# Altium footprint library con-lumberg.PCBLIB: 62 footprints (part 1 of 4)
Each footprint in its own frame and in the unit in brackets; x right, y up, seen from the top. Pads: shape width x height; smd on the part's side, far side on the other; paste and mask are expansions set on the pad; w line width, h text height; cw(c..) or ccw(c..) is an arc to the next point about the centre after c.
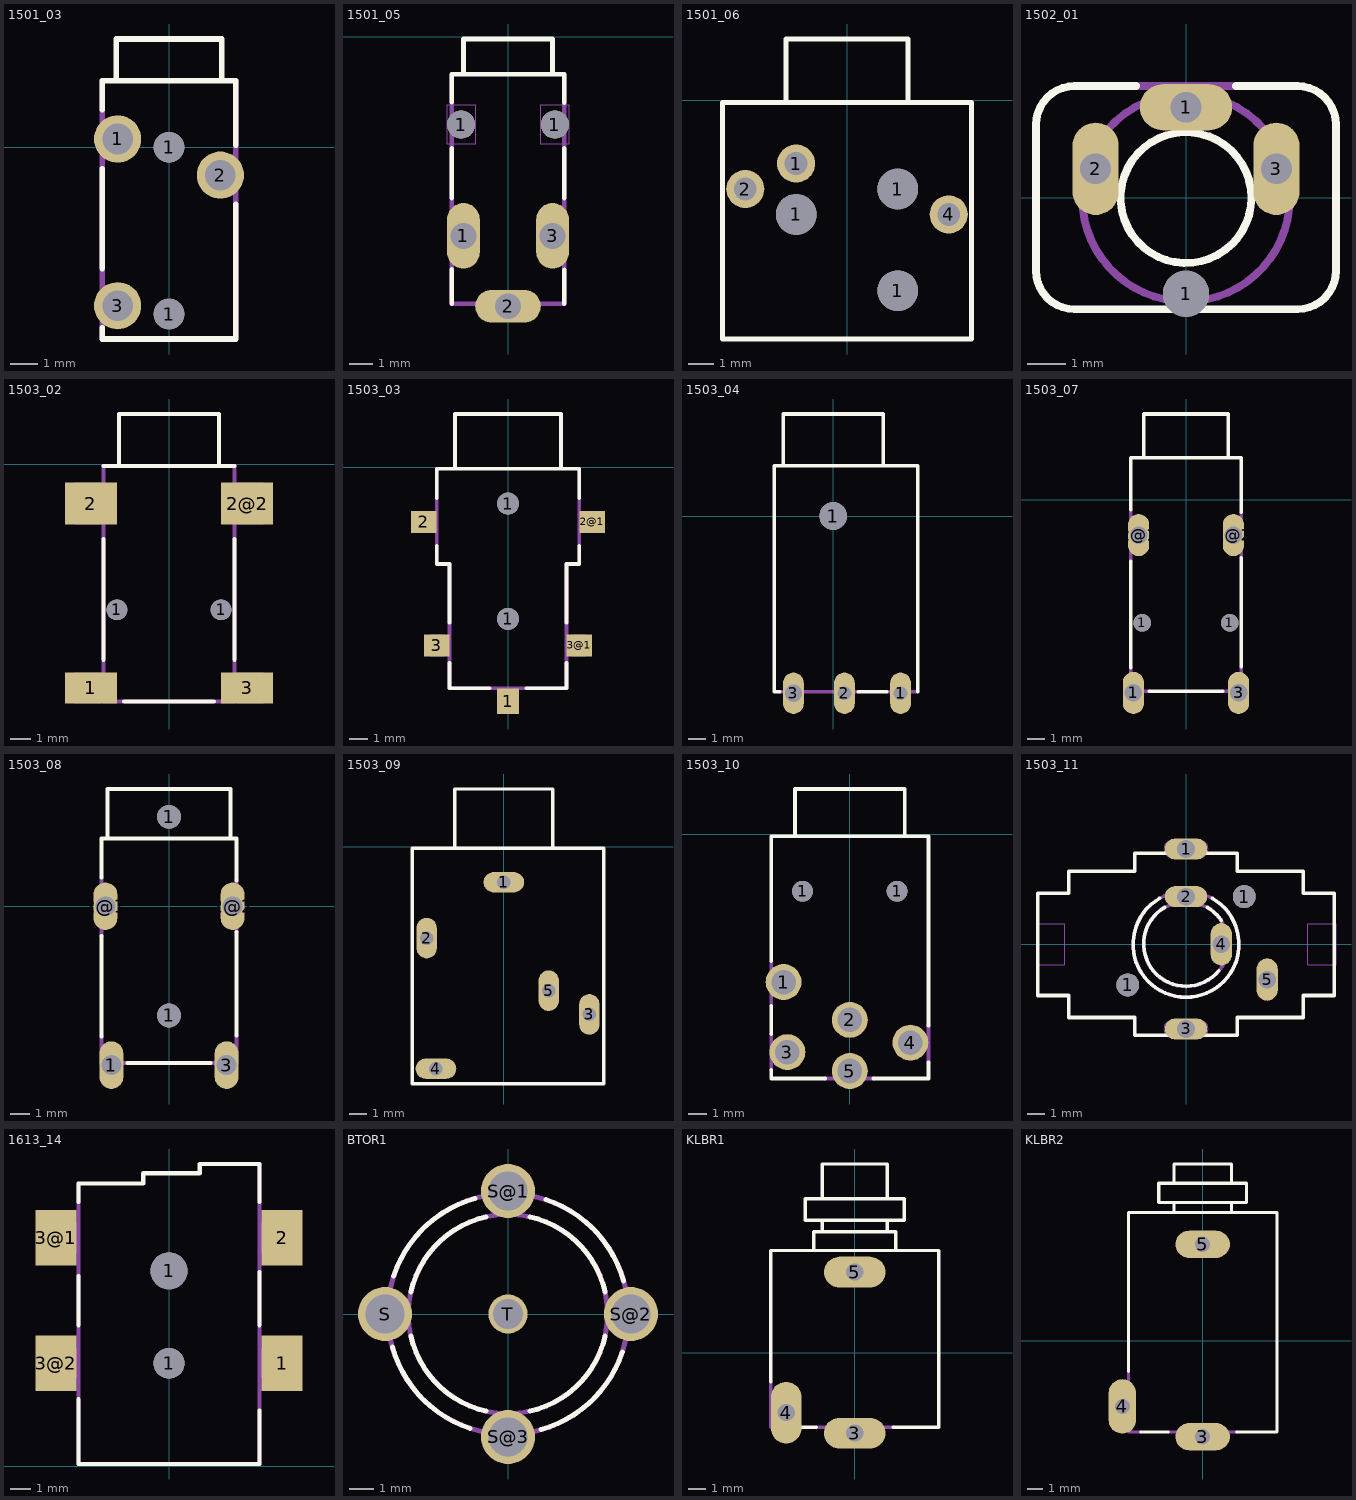
[diagram p0: the footprints below, top view; thin cyan lines are the x and y axes]

## 1501_03 [mm]
pads (5):
  round 1.7 hole 1.1: 1(-1.85,0.3) 2(1.85,-1) 3(-1.85,-5.7)
  round 1.1 hole 1.1: 1(0,-6) 1(0,0)
Top Overlay:
  lines w0.203: -2.4,-6.49 -2.4,-6.9 2.4,-6.9 2.4,-2.045 ; -2.4,-4.36 -2.4,-0.775 ; -2.4,1.355 -2.4,2.4 2.4,2.4 2.4,0.085 ; -1.9,2.5 -1.9,3.9 1.9,3.9 1.9,2.5
Mechanical 16:
  lines w0.203: -2.4,-6.9 -2.4,2.4 ; 2.4,-6.9 2.4,2.4

## 1501_05 [mm]
pads (5):
  round 1.2 hole 1.2: 1(-2,-3.75) 1(2,-3.75)
  oval 1.4x2.8 hole 1.1: 1(-1.9,-8.5) 3(1.9,-8.5)
  oval 2.8x1.4 hole 1.1: 2(0,-11.5)
Top Overlay:
  lines w0.203: -2.4,-11.4 -2.4,-9.94 ; -2.4,-6.885 -2.4,-4.775 ; -2.4,-2.795 -2.4,-1.6 2.4,-1.6 2.4,-2.815 ; -1.9,-1.5 -1.9,-0.1 1.9,-0.1 1.9,-1.5 ; 2.4,-11.4 2.4,-9.945 ; 2.4,-6.885 2.4,-4.775
Mechanical 1:
  lines w0: -2.6,-4.6 -1.4,-4.6 -1.4,-2.9 -2.6,-2.9 -2.6,-4.6 ; 1.4,-4.6 2.6,-4.6 2.6,-2.9 1.4,-2.9 1.4,-4.6
Mechanical 11:
  lines w0: -2.4,-9.25 -1.4,-9.25 -1.4,-7.75 -2.4,-7.75 -2.4,-9.25 ; -0.75,-12 0.75,-12 0.75,-11 -0.75,-11 -0.75,-12 ; 1.4,-9.25 2.4,-9.25 2.4,-7.75 1.4,-7.75 1.4,-9.25
Mechanical 16:
  lines w0.203: -2.4,-1.6 -2.4,-11.4 2.4,-11.4 2.4,-1.6

## 1501_06 [mm]
pads (6):
  round 1.6 hole 1.6: 1(-2,-4.5) 1(2,-7.5) 1(2,-3.5)
  round 1.5 hole 0.9: 1(-2,-2.5) 2(-4,-3.5) 4(4,-4.5)
Top Overlay:
  lines w0.203: -2.4,0 -2.4,2.4 2.4,2.4 2.4,0 ; -4.9,-9.4 4.9,-9.4 4.9,-0.1 -4.9,-0.1 -4.9,-9.4

## 1502_01 [mil]
pads (4):
  round 47.24 hole 47.24: 1(0,-98.43)
  oval 94.48x47.24 hole 31.5: 1(0,92.52)
  oval 47.24x94.48 hole 31.5: 2(-92.52,29.53) 3(92.52,29.53)
Top Overlay:
  circle w8: c0,0 r66.93
  lines w8: -51.18,114.17 -114.17,114.17 ccw(c-114.17,74.8) -153.54,74.8 -153.54,-74.8 ccw(c-114.17,-74.8) -114.17,-114.17 114.17,-114.17 ccw(c114.17,-74.8) 153.54,-74.8 153.54,74.8 ccw(c114.17,74.8) 114.17,114.17 51.18,114.17
Mechanical 11:
  lines w0: -108.27,15.75 -108.27,43.31 cw(c-92.52,43.31) -92.52,59.06 cw(c-92.52,43.31) -76.77,43.31 -76.77,15.75 cw(c-92.52,15.75) -92.52,0 cw(c-92.52,15.75) -108.27,15.75 ; -29.53,92.52 cw(c-13.78,92.52) -13.78,108.27 13.78,108.27 cw(c13.78,92.52) 29.53,92.52 cw(c13.78,92.52) 13.78,76.77 -13.78,76.77 cw(c-13.78,92.52) -29.53,92.52 ; 76.77,15.75 ccw(c92.52,15.75) 92.52,0 ccw(c92.52,15.75) 108.27,15.75 108.27,43.31 ccw(c92.52,43.31) 92.52,59.06 ccw(c92.52,43.31) 76.77,43.31 76.77,15.75
Mechanical 16:
  circle w8: c0,0 r106.3
  lines w8: -51.18,114.17 51.18,114.17

## 1503_02 [mm]
pads (6):
  rect 2.5x1.5 smd: 1(-3.75,-10.75) 3(3.75,-10.75)
  round 1 hole 1: 1(-2.5,-7) 1(2.5,-7)
  rect 2.5x2 smd: 2(-3.75,-1.9) 2@2(3.75,-1.9)
Top Overlay:
  lines w0.203: -3.15,-9.4 -3.15,-3.6 ; -3.15,-0.1 3.15,-0.1 ; -2.4,0 -2.4,2.4 2.4,2.4 2.4,0 ; -2.15,-11.4 2.15,-11.4 ; 3.15,-9.4 3.15,-3.6
Mechanical 16:
  lines w0.203: -3.15,-0.1 -3.15,-11.4 3.15,-11.4 3.15,-0.1
  lines w0.6: -4.45,-11.2 -3.35,-11.2 -3.35,-10.3 -4.45,-10.3 ; -4.45,-2.6 -3.35,-2.6 -3.35,-1.2 -4.45,-1.2 ; 4.45,-11.2 3.35,-11.2 3.35,-10.3 4.45,-10.3 ; 4.45,-2.6 3.35,-2.6 3.35,-1.2 4.45,-1.2

## 1503_03 [mm]
pads (7):
  rect 1.2x1.4 smd: 1(0,-12.8)
  round 1.2 hole 1.2: 1(0,-8.3) 1(0,-2)
  rect 1.4x1.2 smd: 2(-4.6,-3) 2@1(4.6,-3) 3(-3.9,-9.75) 3@1(3.9,-9.75)
Top Overlay:
  lines w0.203: -3.9,-4.3 -3.9,-5.3 -3.2,-5.3 -3.2,-8.5 ; -3.9,-1.7 -3.9,-0.1 3.9,-0.1 3.9,-1.7 ; -3.2,-10.7 -3.2,-12.1 -1,-12.1 ; -2.9,0 -2.9,2.9 2.9,2.9 2.9,0 ; 1,-12.1 3.2,-12.1 3.2,-10.7 ; 3.2,-8.5 3.2,-5.3 3.9,-5.3 3.9,-4.3
Mechanical 16:
  lines w0.203: -3.9,-5.3 -3.9,-0.1 ; -3.2,-5.3 -3.2,-12.1 3.2,-12.1 3.2,-5.3 ; 3.9,-5.3 3.9,-0.1
  lines w0.5: -4.85,-3.35 -4.25,-3.35 -4.25,-2.65 -4.85,-2.65 ; -4.15,-10.1 -3.55,-10.1 -3.55,-9.4 -4.15,-9.4 ; -0.35,-13.05 -0.35,-12.45 0.35,-12.45 0.35,-13.05 ; 4.15,-10.1 3.55,-10.1 3.55,-9.4 4.15,-9.4 ; 4.85,-3.35 4.25,-3.35 4.25,-2.65 4.85,-2.65

## 1503_04 [mil]
pads (4):
  round 62.99 hole 62.99: 1(0,0)
  oval 47.24x94.48 hole 31.5: 1(153.54,-403.54) 2(25.59,-403.54)
  oval 47.24x94.48 hole 39.37: 3(-90.55,-403.54)
Top Overlay:
  lines w8: -122.05,-399.61 -133.86,-399.61 -133.86,114.17 192.91,114.17 192.91,-399.61 ; -114.17,118.11 -114.17,232.28 114.17,232.28 114.17,118.11 ; 57.09,-399.61 122.05,-399.61
Mechanical 11:
  lines w0: -110.24,-423.23 ccw(c-90.56,-423.23) -90.55,-442.91 ccw(c-90.55,-423.23) -70.87,-423.23 -70.87,-383.86 ccw(c-90.56,-383.86) -90.55,-364.17 ccw(c-90.55,-383.86) -110.24,-383.86 -110.24,-423.23 ; 9.84,-427.17 ccw(c25.59,-427.17) 25.59,-442.91 ccw(c25.59,-427.17) 41.34,-427.17 41.34,-379.92 ccw(c25.59,-379.92) 25.59,-364.17 ccw(c25.59,-379.92) 9.84,-379.92 9.84,-427.17 ; 137.8,-427.17 ccw(c153.54,-427.17) 153.54,-442.91 ccw(c153.54,-427.17) 169.29,-427.17 169.29,-379.92 ccw(c153.54,-379.92) 153.54,-364.17 ccw(c153.54,-379.92) 137.8,-379.92 137.8,-427.17
Mechanical 16:
  lines w8: -122.05,-399.61 57.09,-399.61 ; 122.05,-399.61 192.91,-399.61

## 1503_07 [mm]
pads (6):
  oval 1.2x2.4 hole 1: 1(-3,-11) 2@1(-2.7,-2) 2@2(2.7,-2) 3(3,-11)
  round 1 hole 1: 1(-2.5,-7) 1(2.5,-7)
Top Overlay:
  lines w0.203: -3.15,-9.55 -3.15,-3.5 ; -3.15,-0.55 -3.15,2.4 3.15,2.4 3.15,-0.7 ; -2.4,2.5 -2.4,4.9 2.4,4.9 2.4,2.5 ; -2.1,-10.9 2.1,-10.9 ; 3.15,-9.5 3.15,-3.3
Mechanical 11:
  lines w0: -3.4,-11.25 ccw(c-3,-11.25) -3,-11.65 ccw(c-3,-11.25) -2.6,-11.25 -2.6,-10.75 ccw(c-3,-10.75) -3,-10.35 ccw(c-3,-10.75) -3.4,-10.75 -3.4,-11.25 ; -3.2,-2.15 ccw(c-2.7,-2.15) -2.7,-2.65 ccw(c-2.7,-2.15) -2.2,-2.15 -2.2,-1.85 ccw(c-2.7,-1.85) -2.7,-1.35 ccw(c-2.7,-1.85) -3.2,-1.85 -3.2,-2.15 ; 2.2,-2.15 ccw(c2.7,-2.15) 2.7,-2.65 ccw(c2.7,-2.15) 3.2,-2.15 3.2,-1.85 ccw(c2.7,-1.85) 2.7,-1.35 ccw(c2.7,-1.85) 2.2,-1.85 2.2,-2.15 ; 2.6,-11.25 ccw(c3,-11.25) 3,-11.65 ccw(c3,-11.25) 3.4,-11.25 3.4,-10.75 ccw(c3,-10.75) 3,-10.35 ccw(c3,-10.75) 2.6,-10.75 2.6,-11.25
Mechanical 16:
  lines w0.203: -3.15,-9.55 -3.15,-10.9 -2.1,-10.9 ; -3.15,-3.5 -3.15,-0.55 ; 2.1,-10.9 3.15,-10.9 3.15,-9.5 ; 3.15,-3.3 3.15,-0.7

## 1503_08 [mm]
pads (6):
  oval 1.2x2.4 hole 1: 1(-2.9,-8) 2@1(-3.2,0) 2@2(3.2,0) 3(2.9,-8)
  round 1.2 hole 1.2: 1(0,-5.5) 1(0,4.5)
Top Overlay:
  lines w0.203: -3.4,-6.55 -3.4,-1.5 ; -3.4,1.45 -3.4,3.4 3.4,3.4 3.4,1.3 ; -3.1,3.5 -3.1,5.9 3.1,5.9 3.1,3.5 ; -2.1,-7.9 2.1,-7.9 ; 3.4,-6.5 3.4,-1.3
Mechanical 11:
  lines w0: -3.7,-0.15 ccw(c-3.2,-0.15) -3.2,-0.65 ccw(c-3.2,-0.15) -2.7,-0.15 -2.7,0.15 ccw(c-3.2,0.15) -3.2,0.65 ccw(c-3.2,0.15) -3.7,0.15 -3.7,-0.15 ; -3.3,-8.25 ccw(c-2.9,-8.25) -2.9,-8.65 ccw(c-2.9,-8.25) -2.5,-8.25 -2.5,-7.75 ccw(c-2.9,-7.75) -2.9,-7.35 ccw(c-2.9,-7.75) -3.3,-7.75 -3.3,-8.25 ; 2.5,-8.25 ccw(c2.9,-8.25) 2.9,-8.65 ccw(c2.9,-8.25) 3.3,-8.25 3.3,-7.75 ccw(c2.9,-7.75) 2.9,-7.35 ccw(c2.9,-7.75) 2.5,-7.75 2.5,-8.25 ; 2.7,-0.15 ccw(c3.2,-0.15) 3.2,-0.65 ccw(c3.2,-0.15) 3.7,-0.15 3.7,0.15 ccw(c3.2,0.15) 3.2,0.65 ccw(c3.2,0.15) 2.7,0.15 2.7,-0.15
Mechanical 16:
  lines w0.203: -3.4,-6.55 -3.4,-7.9 -2.1,-7.9 ; -3.4,-1.5 -3.4,1.45 ; 2.1,-7.9 3.4,-7.9 3.4,-6.5 ; 3.4,-1.3 3.4,1.3

## 1503_09 [mil]
pads (5):
  oval 94.48x47.24 hole 31.5: 1(0,-82.68) 4(-157.48,-515.75)
  oval 47.24x94.48 hole 31.5: 2(-179.13,-212.6) 3(198.82,-389.76) 5(104.33,-334.65)
Top Overlay:
  lines w8: -114.17,0 -114.17,133.86 114.17,133.86 114.17,0 ; -212.6,-551.18 232.28,-551.18 232.28,-3.94 -212.6,-3.94 -212.6,-551.18
Mechanical 11:
  lines w0: -194.88,-226.38 -194.88,-198.82 cw(c-179.13,-198.82) -179.13,-183.07 cw(c-179.13,-198.81) -163.39,-198.82 -163.39,-226.38 cw(c-179.13,-226.38) -179.13,-242.13 cw(c-179.13,-226.38) -194.88,-226.38 ; -187.01,-515.75 cw(c-171.26,-515.75) -171.26,-500 -143.7,-500 cw(c-143.7,-515.75) -127.95,-515.75 cw(c-143.7,-515.75) -143.7,-531.5 -171.26,-531.5 cw(c-171.26,-515.75) -187.01,-515.75 ; -29.53,-82.68 cw(c-13.78,-82.68) -13.78,-66.93 13.78,-66.93 cw(c13.78,-82.68) 29.53,-82.68 cw(c13.78,-82.68) 13.78,-98.43 -13.78,-98.43 cw(c-13.78,-82.68) -29.53,-82.68 ; 88.58,-348.43 88.58,-320.87 cw(c104.33,-320.87) 104.33,-305.12 cw(c104.33,-320.87) 120.08,-320.87 120.08,-348.43 cw(c104.33,-348.43) 104.33,-364.17 cw(c104.33,-348.43) 88.58,-348.43 ; 183.07,-403.54 183.07,-375.98 cw(c198.81,-375.99) 198.82,-360.24 cw(c198.82,-375.99) 214.57,-375.98 214.57,-403.54 cw(c198.82,-403.54) 198.82,-419.29 cw(c198.82,-403.54) 183.07,-403.54

## 1503_10 [mm]
pads (7):
  round 1.9 hole 1.3: 1(-3.5,-7.8) 2(0,-9.8) 3(-3.3,-11.5) 4(3.2,-11) 5(0,-12.5)
  round 1.1 hole 1.1: 1(-2.5,-3) 1(2.5,-3)
Top Overlay:
  lines w0.203: -4.15,-12.45 -4.15,-12.9 -1.3,-12.9 ; -4.15,-10.55 -4.15,-9.05 ; -4.15,-6.7 -4.15,-0.1 4.15,-0.1 4.15,-10.1 ; -2.9,0 -2.9,2.4 2.9,2.4 2.9,0 ; 1.25,-12.9 4.15,-12.9 4.15,-12.05
Mechanical 16:
  lines w0.203: -4.15,-12.45 -4.15,-10.55 ; -4.15,-9.05 -4.15,-6.7 ; -1.3,-12.9 1.25,-12.9 ; 4.15,-12.05 4.15,-10.1

## 1503_11 [mm]
pads (7):
  round 1.3 hole 1.3: 1(-3.3,-2.3) 1(3.3,2.7)
  oval 2.4x1.2 hole 1: 1(0,5.4) 2(0,2.7) 3(0,-4.8)
  oval 1.2x2.4 hole 1: 4(2,0) 5(4.6,-2)
Top Overlay:
  lines w0.203: -1.5,2.6 ccw(c0,0) 1.5,2.6 ; -1.2,2.1 ccw(c0,0.025) 1.85,-1.5 ; 1.2,2.1 cw(c0.006,0.025) 2,1.35 ; -8.4,-2.9 -8.4,2.9 -6.65,2.9 -6.65,4.15 -2.9,4.15 -2.9,5.15 2.9,5.15 2.9,4.15 6.65,4.15 6.65,2.9 8.4,2.9 8.4,-2.9 6.65,-2.9 6.65,-4.15 2.9,-4.15 2.9,-5.15 -2.9,-5.15 -2.9,-4.15 -6.65,-4.15 -6.65,-2.9 -8.4,-2.9
Mechanical 1:
  lines w0: -8.5,-1.15 -8.5,1.15 -6.9,1.15 -6.9,-1.15 -8.5,-1.15 ; 6.9,-1.15 8.5,-1.15 8.5,1.15 6.9,1.15 6.9,-1.15
Mechanical 11:
  lines w0: -1.25,-4.8 cw(c-0.75,-4.8) -0.75,-4.3 0.75,-4.3 cw(c0.75,-4.8) 1.25,-4.8 cw(c0.75,-4.8) 0.75,-5.3 -0.75,-5.3 cw(c-0.75,-4.8) -1.25,-4.8 ; -1.25,5.4 cw(c-0.75,5.4) -0.75,5.9 0.75,5.9 cw(c0.75,5.4) 1.25,5.4 cw(c0.75,5.4) 0.75,4.9 -0.75,4.9 cw(c-0.75,5.4) -1.25,5.4 ; -1,2.7 cw(c-0.5,2.7) -0.5,3.2 0.5,3.2 cw(c0.5,2.7) 1,2.7 cw(c0.5,2.7) 0.5,2.2 -0.5,2.2 cw(c-0.5,2.7) -1,2.7 ; 1.5,-0.35 1.5,0.35 cw(c2,0.35) 2,0.85 cw(c2,0.35) 2.5,0.35 2.5,-0.35 cw(c2,-0.35) 2,-0.85 cw(c2,-0.35) 1.5,-0.35 ; 4.1,-2.35 4.1,-1.35 cw(c4.6,-1.35) 4.6,-0.85 cw(c4.6,-1.35) 5.1,-1.35 5.1,-2.35 cw(c4.6,-2.35) 4.6,-2.85 cw(c4.6,-2.35) 4.1,-2.35
Mechanical 16:
  circle w0.203: c0,0 r2.4
  circle w0.203: c0,0 r3

## 1613_14 [mm]
pads (6):
  round 1.5 hole 1.5: 1(0,5)
  round 1.8 hole 1.8: 1(0,9.5)
  rect 2x2.7 smd: 1(5.5,5) 2(5.5,11.1) 3@1(-5.5,11.1) 3@2(-5.5,5)
Top Overlay:
  lines w0.203: -4.4,3.25 -4.4,0.1 4.4,0.1 4.4,2.7 ; -4.4,6.85 -4.4,9.25 ; -4.4,12.85 -4.4,13.75 -1.25,13.75 -1.25,14.25 1.5,14.25 1.5,14.7 4.4,14.7 4.4,12.85 ; 4.4,6.85 4.4,9.45
Mechanical 16:
  rectangle: -6.3,10.362 -4.412,11.837
  rectangle: -6.3,4.25 -4.425,5.75
  rectangle: 4.412,10.35 6.3,11.85
  rectangle: 4.463,4.25 6.3,5.75
  lines w0.203: -4.4,0.1 -4.4,13.75 ; 4.4,0.1 4.4,14.7

## BTOR1 [mm]
pads (5):
  round 2.2 hole 1.6: S(-5,0) S@1(0,5) S@2(5,0) S@3(0,-5)
  round 1.6 hole 1.2: T(0,0)
Top Overlay:
  lines w0.203: -4.7,-1.35 ccw(c0,-0.017) -1.55,-4.65 ; -4.65,1.55 cw(c-0.017,0) -1.35,4.7 ; -3.95,-0.9 ccw(c0,0) -0.9,-3.95 ; -3.95,0.9 cw(c0,0) -0.9,3.95 ; 0.9,-3.95 ccw(c0,0) 3.95,-0.9 ; 0.9,3.95 cw(c0,0) 3.95,0.9 ; 1.35,-4.7 ccw(c0.017,0) 4.65,-1.55 ; 1.55,4.65 cw(c0,0.017) 4.7,1.35
Mechanical 16:
  circle w0.203: c0,0 r4.05
  circle w0.203: c0,0 r4.9

## KLBR1 [mm]
pads (3):
  oval 3.6x1.8 hole 1: 3(0,-4.7) 5(0,4.7)
  oval 1.8x3.6 hole 1: 4(-4,-3.5)
Top Overlay:
  lines w0.203: -4.9,-1.7 -4.9,5.965 -2.4,5.965 ; -4.1,-4.35 -2.25,-4.35 ; -1.9,7.165 -1.9,7.725 ; 1.9,7.165 1.9,7.725 ; 2.25,-4.35 4.9,-4.35 4.9,5.965 2.4,5.965 ; -2.4,5.965 2.4,5.965 ; -2.4,5.965 -2.4,7.065 2.4,7.065 2.4,5.965 ; -1.9,7.725 -2.9,7.725 -2.9,8.995 -1.9,8.995 ; -1.9,7.725 1.9,7.725 ; -1.9,8.995 1.9,8.995 ; -1.9,8.995 -1.9,11.015 1.9,11.015 1.9,8.995 ; 1.9,7.725 2.9,7.725 2.9,8.995 1.9,8.995
Mechanical 11:
  lines w0: -4.5,-4.25 ccw(c-4,-4.25) -4,-4.75 ccw(c-4,-4.25) -3.5,-4.25 -3.5,-2.75 ccw(c-4,-2.75) -4,-2.25 ccw(c-4,-2.75) -4.5,-2.75 -4.5,-4.25 ; -1.25,-4.7 cw(c-0.75,-4.7) -0.75,-4.2 0.75,-4.2 cw(c0.75,-4.7) 1.25,-4.7 cw(c0.75,-4.7) 0.75,-5.2 -0.75,-5.2 cw(c-0.75,-4.7) -1.25,-4.7 ; -1.25,4.7 cw(c-0.75,4.7) -0.75,5.2 0.75,5.2 cw(c0.75,4.7) 1.25,4.7 cw(c0.75,4.7) 0.75,4.2 -0.75,4.2 cw(c-0.75,4.7) -1.25,4.7
Mechanical 16:
  lines w0.203: -4.9,-1.7 -4.9,-4.35 -4.1,-4.35 ; -2.25,-4.35 2.25,-4.35

## KLBR2 [mm]
pads (3):
  oval 3.6x1.8 hole 1: 3(0,-6.35) 5(0,6.35)
  oval 1.8x3.6 hole 1: 4(-5.3,-4.35)
Top Overlay:
  lines w0.203: -4.9,-2.05 -4.9,8.45 4.9,8.45 4.9,-6.05 2.25,-6.05 ; -4.1,-6.05 -2.25,-6.05 ; -1.9,8.55 -1.9,9.11 ; 1.9,8.55 1.9,9.11 ; -1.9,9.11 -2.9,9.11 -2.9,10.38 -1.9,10.38 ; -1.9,9.11 1.9,9.11 ; -1.9,10.38 1.9,10.38 ; -1.9,10.38 -1.9,11.65 1.9,11.65 1.9,10.38 ; 1.9,9.11 2.9,9.11 2.9,10.38 1.9,10.38
Mechanical 11:
  lines w0: -5.8,-5.35 ccw(c-5.3,-5.35) -5.3,-5.85 ccw(c-5.3,-5.35) -4.8,-5.35 -4.8,-3.35 ccw(c-5.3,-3.35) -5.3,-2.85 ccw(c-5.3,-3.35) -5.8,-3.35 -5.8,-5.35 ; -1.5,-6.35 cw(c-1,-6.35) -1,-5.85 1,-5.85 cw(c1,-6.35) 1.5,-6.35 cw(c1,-6.35) 1,-6.85 -1,-6.85 cw(c-1,-6.35) -1.5,-6.35 ; -1.5,6.35 cw(c-1,6.35) -1,6.85 1,6.85 cw(c1,6.35) 1.5,6.35 cw(c1,6.35) 1,5.85 -1,5.85 cw(c-1,6.35) -1.5,6.35
Mechanical 16:
  lines w0.203: -4.9,-2.05 -4.9,-6.05 -4.1,-6.05 ; -2.25,-6.05 2.25,-6.05